# Altium schematic symbol library Traco.SchLib: 1 symbol
Pins are listed as number, name and electrical type; pins without a type are passive.

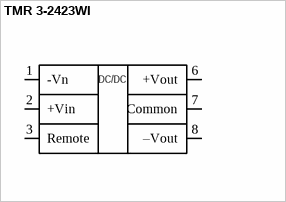
[diagram p0: symbol TMR 3-2423WI]

## TMR 3-2423WI
designator D  (value not drawn)
footprint TMR 3WI Series (D)
pins: 1 -Vn, 2 +Vin, 3 Remote, 6 +Vout, 7 Common, 8  –Vout
text: DC/DC